# EAGLE library part SN65HVD230MDREP (library SN65HVD230MDREP)
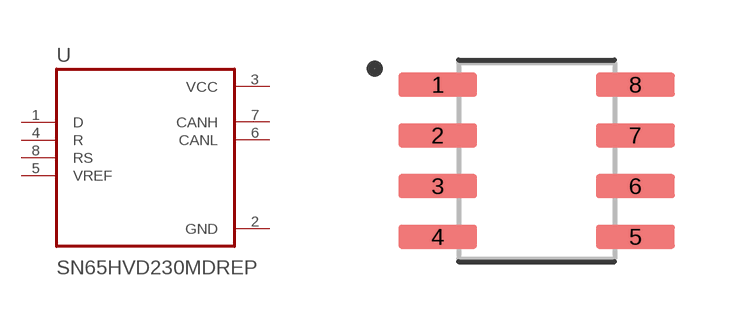
[diagram p0: symbol with the pads of SOIC127P599X175-8N; footprint SOIC127P599X175-8N]

Designator prefix U

## SN65HVD230MDREP (Description: Enhanced Product 3.3-V Can Transceivers With Standby Mode 8-SOIC -55 to 125; Digi-Key_Part_Number: 296-20723-1-ND; MF: Texas Instruments; MP: SN65HVD230MDREP; Package: SOIC-8 Texas Instruments; Purchase-URL: https://pricing.snapeda.com/search/part/SN65HVD230MDREP/?ref=eda)  [SOIC127P599X175-8N]
1  D  in
2  GND  pwr
3  VCC  pwr
4  R  in
5  VREF  in
6  CANL  out
7  CANH  out
8  RS  in

## Footprint SOIC127P599X175-8N (pad centres in mm)
smd 1.97 x 0.6: 1 -2.47,1.905; 2 -2.47,0.635; 3 -2.47,-0.635; 4 -2.47,-1.905; 5 2.47,-1.905; 6 2.47,-0.635; 7 2.47,0.635; 8 2.47,1.905